# EAGLE library part FDS6898A (library transistor-power)
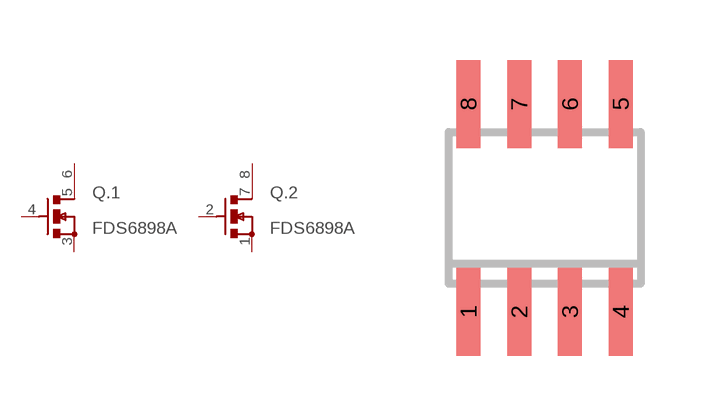
[diagram p7: symbol with the pads of SO-08; footprint SO-08]

Designator prefix Q; gates .1=MFN-S1-D2 .2=MFN-S1-D2

## FDS6898A  [SO-08]
1  .2:S  pas
2  .2:G  pas
3  .1:S  pas
4  .1:G  pas
5  .1:D1  pas
6  .1:D2  pas
7  .2:D1  pas
8  .2:D2  pas

## Footprint SO-08 (pad centres in mm)
Small Outline Narrow Plastic Gull Wing 150-mil body, package type SN
smd 0.6 x 2.2: 1 -1.905,-2.6; 2 -0.635,-2.6; 3 0.635,-2.6; 4 1.905,-2.6; 5 1.905,2.6; 6 0.635,2.6; 7 -0.635,2.6; 8 -1.905,2.6